# EAGLE library part XR-T5681 (library exar)
2 MBPS PCM TRANSCEIVER
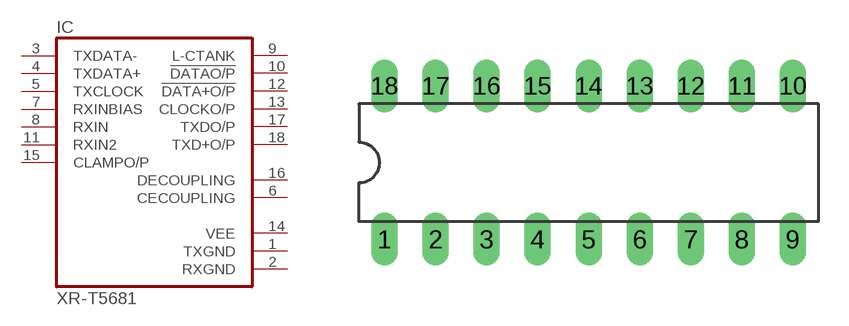
[diagram p13: symbol with the pads of DIL18; footprint DIL18]

Designator prefix IC

## XR-T5681  [DIL18]
1  TXGND  pwr
2  RXGND  pwr
3  TXDATA-  in
4  TXDATA+  in
5  TXCLOCK  in
6  CECOUPLING  out
7  RXINBIAS  in
8  RXIN  in
9  L-CTANK  out
10  !DATAO/P  out
11  RXIN2  in
12  !DATA+O/P  out
13  CLOCKO/P  out
14  VEE  pwr
15  CLAMPO/P  in
16  DECOUPLING  out
17  TXDO/P  out
18  TXD+O/P  out

## Footprint DIL18 (pad centres in mm)
Dual In Line Package
drill 0.813 long: 1 -10.16,-3.81; 2 -7.62,-3.81; 3 -5.08,-3.81; 4 -2.54,-3.81; 5 0,-3.81; 6 2.54,-3.81; 7 5.08,-3.81; 8 7.62,-3.81; 9 10.16,-3.81; 10 10.16,3.81; 11 7.62,3.81; 12 5.08,3.81; 13 2.54,3.81; 14 0,3.81; 15 -2.54,3.81; 16 -5.08,3.81; 17 -7.62,3.81; 18 -10.16,3.81